# EAGLE library part HDSP-4832 (library led)
10-Element Bar Graph Array
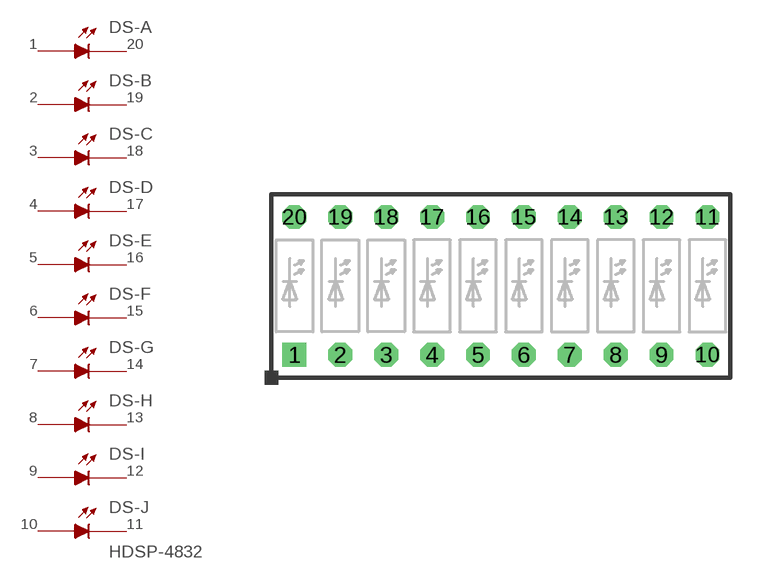
[diagram p10: symbol with the pads of HDSP-4832; footprint HDSP-4832]

Designator prefix DS; gates -A=LED-NH -B=LED-NH -C=LED-NH -D=LED-NH -E=LED-NH -F=LED-NH -G=LED-NH -H=LED-NH -I=LED-NH -J=LED-NVH

## HDSP-4832  [HDSP-4832]
1  -A:A  pas
2  -B:A  pas
3  -C:A  pas
4  -D:A  pas
5  -E:A  pas
6  -F:A  pas
7  -G:A  pas
8  -H:A  pas
9  -I:A  pas
10  -J:A  pas
11  -J:C  pas
12  -I:C  pas
13  -H:C  pas
14  -G:C  pas
15  -F:C  pas
16  -E:C  pas
17  -D:C  pas
18  -C:C  pas
19  -B:C  pas
20  -A:C  pas

## Footprint HDSP-4832 (pad centres in mm)
10-Element Bar Graph Array
drill 0.813 square: 1 -11.43,-3.81
drill 0.813 octagon: 2 -8.89,-3.81; 3 -6.35,-3.81; 4 -3.81,-3.81; 5 -1.27,-3.81; 6 1.27,-3.81; 7 3.81,-3.81; 8 6.35,-3.81; 9 8.89,-3.81; 10 11.43,-3.81; 11 11.43,3.81; 12 8.89,3.81; 13 6.35,3.81; 14 3.81,3.81; 15 1.27,3.81; 16 -1.27,3.81; 17 -3.81,3.81; 18 -6.35,3.81; 19 -8.89,3.81; 20 -11.43,3.81